# EAGLE library part TC164 (library n64-rgb-dac)
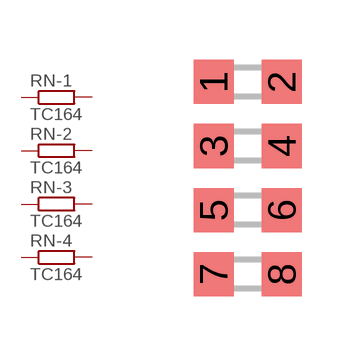
[diagram p8: symbol with the pads of R0603_NET_4; footprint R0603_NET_4]

Designator prefix RN; gates -1=R_EU -2=R_EU -3=R_EU -4=R_EU

## TC164  [R0603_NET_4]
1  -1:1  pas
2  -1:2  pas
3  -2:1  pas
4  -2:2  pas
5  -3:1  pas
6  -3:2  pas
7  -4:1  pas
8  -4:2  pas

## Footprint R0603_NET_4 (pad centres in mm)
smd 1 x 1.1: 1 -0.85,0; 2 0.85,0; 3 -0.85,-1.6; 4 0.85,-1.6; 5 -0.85,-3.2; 6 0.85,-3.2; 7 -0.85,-4.8; 8 0.85,-4.8